# EAGLE library part LC2255 (library dan)
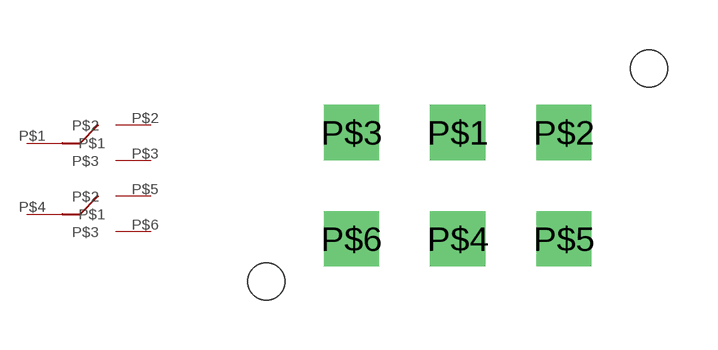
[diagram p16: symbol with the pads of LC2255; footprint LC2255]

Designator prefix -; gates G$1=LC2255 G$2=LC2255

## LC2255  [LC2255]
P$1  G$1:P$1
P$2  G$1:P$2
P$3  G$1:P$3
P$4  G$2:P$1
P$5  G$2:P$2
P$6  G$2:P$3

## Footprint LC2255 (pad centres in mm)
drill 1.1 square: P$1 0,1.27; P$2 3.175,1.27; P$3 -3.175,1.27; P$4 0,-1.905; P$5 3.175,-1.905; P$6 -3.175,-1.905
hole 1.1 at 5.715,3.175
hole 1.1 at -5.715,-3.175